# Altium integrated library ON Semi Signal Management Audio Amplifiers.IntLib: 87 symbols (part 2 of 4)
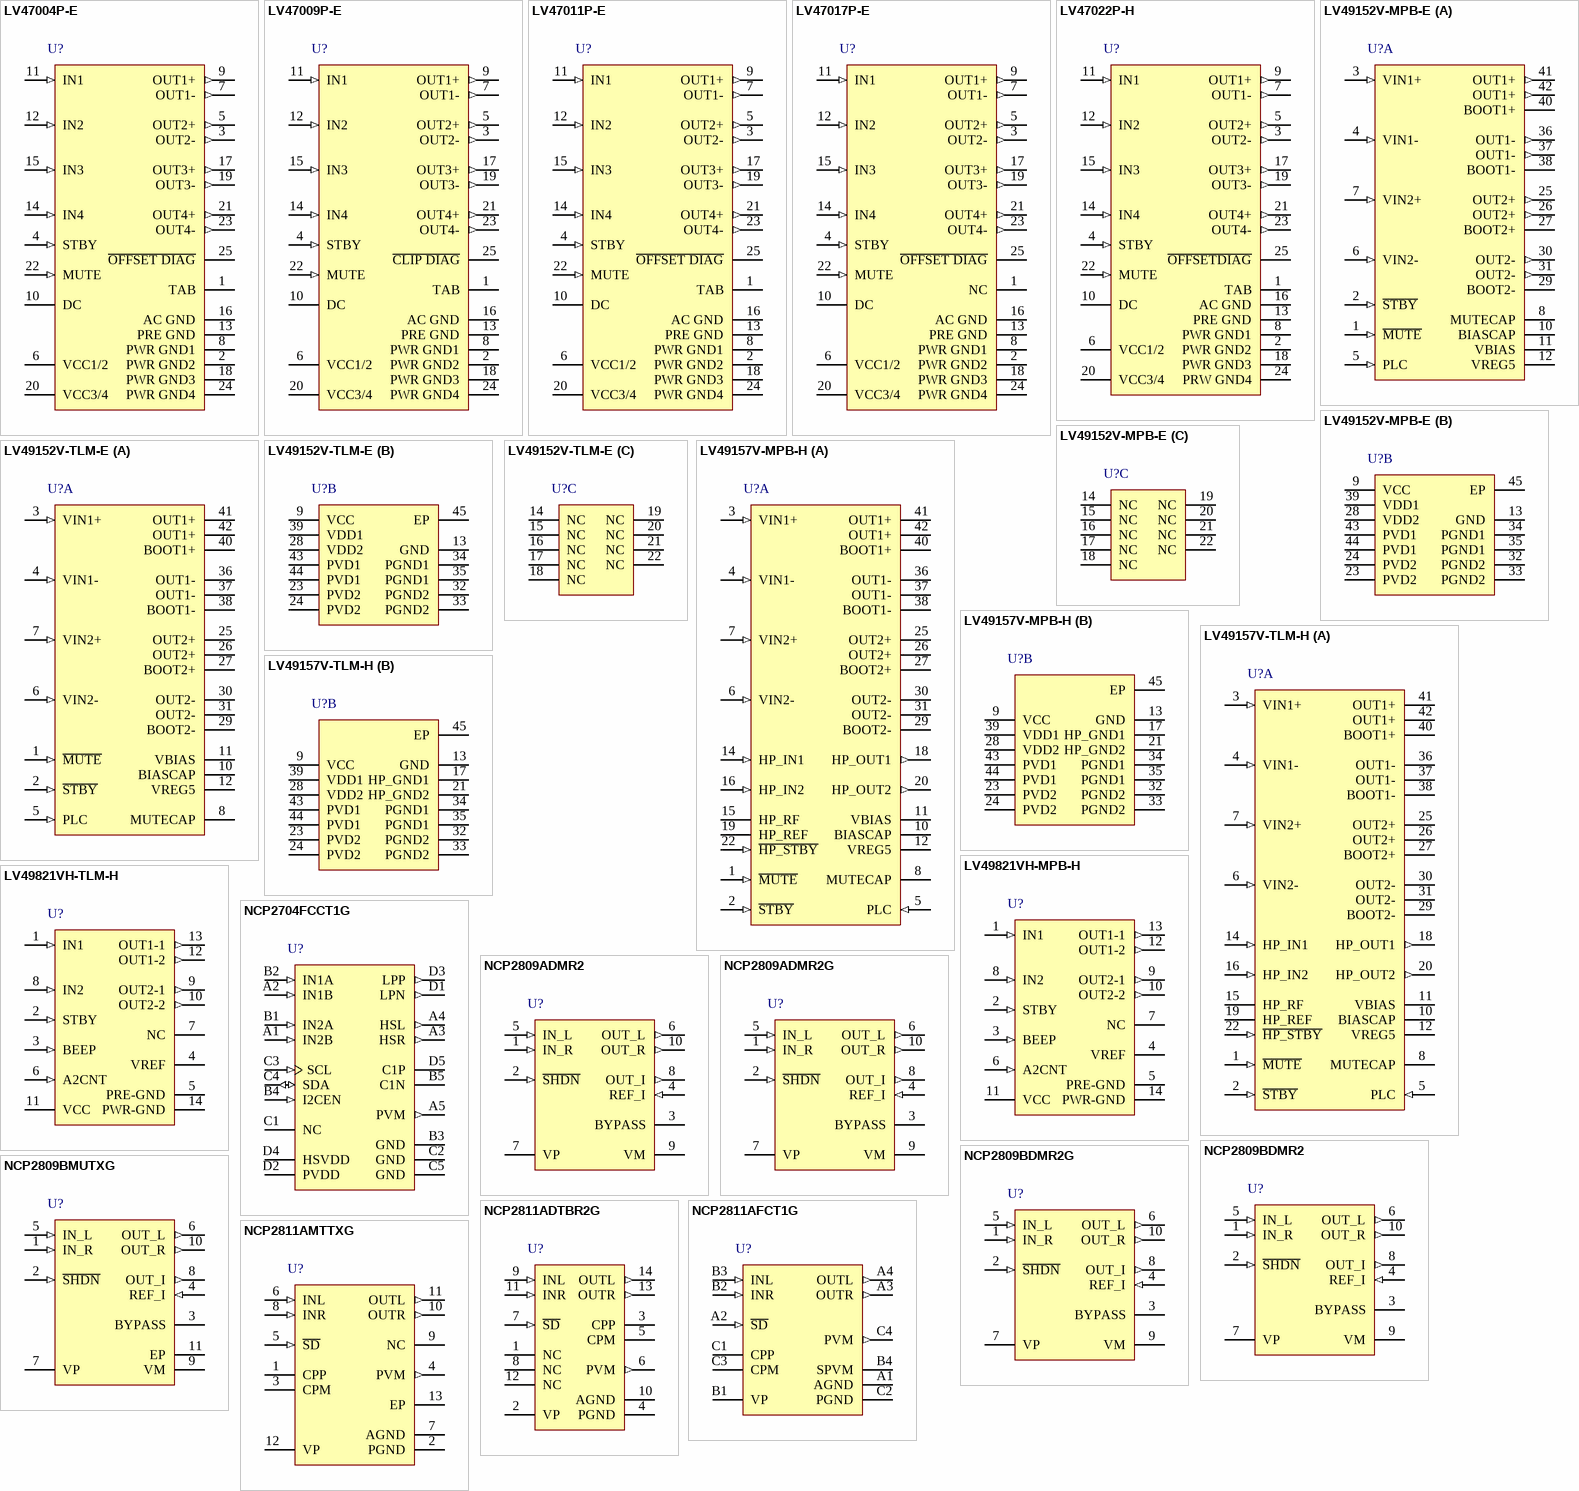
[diagram p4: symbols LV47004P-E to NCP2811AMTTXG]

## LV49157V-TLM-H
designator U?
Class-D Audio Power Amplifier with Built-In Headphone Amplifier BTL 15 W x 2 ch, -25 to 75 degC, 44-Pin SSOP44J, Pb-Free, Tape and Reel; Manufacturer: On Semiconductor; PartNumber: LV49157V-TLM-H; Efficiency Typ (%): 93; DatasheetVersion: Rev. 0; PackageReference: SSOP44J-44; PackageDescription: 44-Pin Small Outline Package, Body 15 x 5.6 mm, Pitch 0.65 mm; Supplier 1: Digi-Key; Supplier Part Number 1: LV49157V-TLM-H-ND; Supplier 2: Mouser; Supplier Part Number 2: 863-LV49157V-TLM-H; Packing: Tape and Reel; RoHS: TRUE; Mounting Technology: Surface Mount; ComponentLink1Description: Manufacturer URL; ComponentLink1URL: http://www.onsemi.com/; ComponentLink2Description: Datasheet; ComponentLink2URL: http://www.onsemi.com/pub_link/Collateral/LV49157V-D.PDF; ComponentLink3Description: Package Specification; ComponentLink3URL: http://www.onsemi.com/pub_link/Collateral/ENA1963-D.PDF
footprint ONSC-SSOP44J-44_N (SOP, 44-Leads, Body 15x5.6mm, Pitch 0.65mm, Thermal Pad 7.8x3.6mm, IPC Medium Density)
footprint ONSC-SSOP44J-44_L (SOP, 44-Leads, Body 15x5.6mm, Pitch 0.65mm, Thermal Pad 7.8x3.6mm, IPC High Density)
footprint ONSC-SSOP44J-44_M (SOP, 44-Leads, Body 15x5.6mm, Pitch 0.65mm, Thermal Pad 7.8x3.6mm, IPC Low Density)
part A pins: 1 ~{MUTE} (in) "Mute control pin", 2 ~{STBY} (in) "Standby control pin", 3 VIN1+ (in) "Input pin, CH1 plus", 4 VIN1- (in) "Input pin, CH1 minus", 5 PLC (in) "Power level control pin", 6 VIN2- (in) "Input pin, CH2 minus", 7 VIN2+ (in) "Input pin, CH2 plus", 8 MUTECAP "Muteing system capacitor connection", 10 BIASCAP "Internal regulator decoupling capacitor connection", 11 VBIAS "Internal regulator decoupling capacitor connection", 12 VREG5 "Internal regulator decoupling capacitor connection", 14 HP_IN1 (in) "Headphone CH1 input", 15 HP_RF "Internal regulator decoupling capacitor connection", 16 HP_IN2 (in) "Headphone CH2 input", 18 HP_OUT1 (out) "Headphone CH1 output", 19 HP_REF "Internal regulator decoupling capacitor connection", 20 HP_OUT2 (out) "Headphone CH2 output", 22 ~{HP_STBY} (in) "Headphone Amplifier standby control pin", 25 OUT2+ "Output pin, CH2 plus", 26 OUT2+ "Output pin, CH2 plus", 27 BOOT2+ "Boot strap pin, CH2 plus", 29 BOOT2- "Boot strap pin, CH2 minus", 30 OUT2- "Output pin, CH2 minus", 31 OUT2- "Output pin, CH2 minus", 36 OUT1- "Output pin, CH1 minus", 37 OUT1- "Output pin, CH1 minus", 38 BOOT1- "Boot strap pin, CH1 minus", 40 BOOT1+ "Boot strap pin, CH1 plus", 41 OUT1+ "Output pin, CH1 plus", 42 OUT1+ "Output pin, CH1 plus"
part B pins: 9 VCC (power) "Internal power supply decoupling capacitor connection", 13 GND (power) "Analog Ground", 17 HP_GND1 (power) "Headphone Ground", 21 HP_GND2 (power) "Headphone CH2 Ground", 23 PVD2 (power) "CH2 power supply", 24 PVD2 (power) "CH2 power supply", 28 VDD2 (power) "CH2 internal regulator decoupling capacitor connection", 32 PGND2 (power) "CH2 power Ground", 33 PGND2 (power) "CH2 power Ground", 34 PGND1 (power) "CH1 power Ground", 35 PGND1 (power) "CH1 power Ground", 39 VDD1 (power) "CH1 internal regulator decoupling capacitor connection", 43 PVD1 (power) "CH1 power supply", 44 PVD1 (power) "CH1 power supply", 45 EP

## LV49821VH-MPB-H
designator U?
For Portable Electronic Device Use 1.4 W x 2 ch BTL Power Amplifier, -30 to 75 degC, 13-Pin HSSOP, Pb-Free, Fan-Fold; Manufacturer: On Semiconductor; PartNumber: LV49821VH-MPB-H; DatasheetVersion: Rev. 1; PackageVersion: Rev. O, 05/2012; PackageReference: HSSOP-13-944AD; PackageDescription: 13-Pin Small Outline Package, Body 5.2 x 4.4 mm, Pitch 0.65 mm; Supplier 1: Digi-Key; Supplier Part Number 1: LV49821VH-MPB-H-ND; Supplier 2: Mouser; Supplier Part Number 2: 863-LV49821VH-MPB-H; Packing: Fan-Fold; RoHS: TRUE; Mounting Technology: Surface Mount; ComponentLink1Description: Manufacturer URL; ComponentLink1URL: http://www.onsemi.com/; ComponentLink2Description: Datasheet; ComponentLink2URL: http://www.onsemi.com/pub_link/Collateral/LV49821VH-D.PDF; ComponentLink3Description: Package Specification; ComponentLink3URL: http://www.onsemi.com/pub_link/Collateral/944AD.PDF
footprint ONSC-HSSOP-13-944AD_N (SOP, 14-Leads, Body 5.3x4.5mm, Pitch 0.65mm, IPC Medium Density)
footprint ONSC-HSSOP-13-944AD_L (SOP, 14-Leads, Body 5.3x4.5mm, Pitch 0.65mm, IPC High Density)
footprint ONSC-HSSOP-13-944AD_M (SOP, 14-Leads, Body 5.3x4.5mm, Pitch 0.65mm, IPC Low Density)
pins: 1 IN1 (in) "Power amplifier input pin (1ch).", 2 STBY (in) "Standby control pin.", 3 BEEP (in) "Beep signal input pin.", 4 VREF "Reference voltage pin.", 5 PRE-GND (power) "Pre-stage block ground pin", 6 A2CNT (in) "2nd amplifier stop control pin.", 7 NC "Unused pin.", 8 IN2 (in) "Power amplifier input pin (2ch).", 9 OUT2-1 (out) "BTL 1st output pin (2ch).", 10 OUT2-2 (out) "BTL 2nd output pin (2ch).", 11 VCC (power) "Power supply pin.", 12 OUT1-2 (out) "BTL 2nd output pin (1ch).", 13 OUT1-1 (out) "BTL 1st output pin (1ch).", 14 PWR-GND (power) "Power system ground pin. Radiotion fin."

## LV49821VH-TLM-H
designator U?
For Portable Electronic Device Use 1.4 W x 2 ch BTL Power Amplifier, -30 to 75 degC, 13-Pin HSSOP, Pb-Free, Tape and Reel; Manufacturer: On Semiconductor; PartNumber: LV49821VH-TLM-H; DatasheetVersion: Rev. 1; PackageVersion: Rev. O, 05/2012; PackageReference: HSSOP-13-944AD; PackageDescription: 13-Pin Small Outline Package, Body 5.2 x 4.4 mm, Pitch 0.65 mm; Supplier 1: Digi-Key; Supplier Part Number 1: LV49821VH-TLM-H-ND; Supplier 2: Mouser; Supplier Part Number 2: 863-LV49821VH-TLM-H; Packing: Tape and Reel; RoHS: TRUE; Mounting Technology: Surface Mount; ComponentLink1Description: Manufacturer URL; ComponentLink1URL: http://www.onsemi.com/; ComponentLink2Description: Datasheet; ComponentLink2URL: http://www.onsemi.com/pub_link/Collateral/LV49821VH-D.PDF; ComponentLink3Description: Package Specification; ComponentLink3URL: http://www.onsemi.com/pub_link/Collateral/944AD.PDF
footprint ONSC-HSSOP-13-944AD_N (SOP, 14-Leads, Body 5.3x4.5mm, Pitch 0.65mm, IPC Medium Density)
footprint ONSC-HSSOP-13-944AD_L (SOP, 14-Leads, Body 5.3x4.5mm, Pitch 0.65mm, IPC High Density)
footprint ONSC-HSSOP-13-944AD_M (SOP, 14-Leads, Body 5.3x4.5mm, Pitch 0.65mm, IPC Low Density)
pins: 1 IN1 (in) "Power amplifier input pin (1ch).", 2 STBY (in) "Standby control pin.", 3 BEEP (in) "Beep signal input pin.", 4 VREF "Reference voltage pin.", 5 PRE-GND (power) "Pre-stage block ground pin", 6 A2CNT (in) "2nd amplifier stop control pin.", 7 NC "Unused pin.", 8 IN2 (in) "Power amplifier input pin (2ch).", 9 OUT2-1 (out) "BTL 1st output pin (2ch).", 10 OUT2-2 (out) "BTL 2nd output pin (2ch).", 11 VCC (power) "Power supply pin.", 12 OUT1-2 (out) "BTL 2nd output pin (1ch).", 13 OUT1-1 (out) "BTL 1st output pin (1ch).", 14 PWR-GND (power) "Power system ground pin. Radiotion fin."

## NCP2704FCCT1G
designator U?
Audio Management Integrated Circuit with 2.8 W Class-D and LongPlay True Ground Headphone Amplifier, -40 to 85 degC, 20-Pin FLIP-CHIP, Pb-Free, Tape and Reel; Manufacturer: On Semiconductor; PartNumber: NCP2704FCCT1G; Efficiency Typ (%): 87; ISD Typ (nA): 100; DatasheetVersion: Rev. 0; PackageVersion: Rev. A, 10/2010; PackageReference: FLIP-CHIP-20-499BH-01; PackageDescription: 20-Ball Flip Chip Ball Grid Array, Body 2.5 x 2 mm, Pitch 0.5 mm; Supplier 1: Digi-Key; Supplier Part Number 1: NCP2704FCCT1G-ND; Supplier 2: Mouser; Supplier Part Number 2: 863-NCP2704FCCT1G; Packing: Tape and Reel; RoHS: TRUE; Mounting Technology: Surface Mount; ComponentLink1Description: Manufacturer URL; ComponentLink1URL: http://www.onsemi.com/; ComponentLink2Description: Datasheet; ComponentLink2URL: http://www.onsemi.com/pub_link/Collateral/NCP2704-D.PDF; ComponentLink3Description: Package Specification; ComponentLink3URL: http://www.onsemi.com/pub_link/Collateral/499BH.PDF
footprint ONSC-FLIP-CHIP-20-499BH-01 (BGA, 20-Balls, Body 2.5x2mm, Pitch 0.5mm)
pins: A1 IN2B (in) "First audio input. It is paired with IN2A. This pin is configured for single ended or differential types of input, pending on the I2C programming.", A2 IN1B (in) "First audio input. It is paired with IN1A. This pin is configured for single ended or differential types of input, pending on the I2C programming.", A3 HSR (out) "Headset amplifier right output.", A4 HSL (out) "Headset amplifier left output.", A5 PVM (out) "Charge pump output. This is the symmetrical voltage of the power supply applied on the HSVBAT. A low ESR ceramic capacitor to ground is required.", B1 IN2A (in) "First audio input. It is paired with IN2B. This pin is configured for single ended or differential types of input, pending on the I2C programming.", B2 IN1A (in) "First audio input. It is paired with IN1B. This pin is configured for single ended or differential types of input, pending on the I2C programming.", B3 GND (power) "Analog ground.", B4 I2CEN (in) "I2C enable pin", B5 C1N "Charge pump flying capacitor negative capacitor.", C1 NC "Not connected pin", C2 GND (power) "Power ground dedicated to the loudspeaker and the receiver.", C3 SCL (in) "Clock input for the I2C bus.", C4 SDA (io) "Data input for the I2C bus.", C5 GND (power) "Power ground dedicated to the charge pump and the headset amplifier.", D1 LPN (out) "Loudspeaker negative output.", D2 PVDD (power) "Power supply. A low ESR ceramic capacitor to ground is required.", D3 LPP (out) "Loudspeaker positive output.", D4 HSVDD (power) "Power supply dedicated to the charge pump and the headset amplifier. A low ESR ceramic capacitor to ground is required.", D5 C1P "Charge pump flying capacitor positive capacitor."

## NCP2809ADMR2
designator U?
NOCAP(TM) 135 mW Stereo Headphone Power Amplifier, -40 to 85 degC, 10-Pin MICRO, Tape and Reel; Manufacturer: On Semiconductor; PartNumber: NCP2809ADMR2; Efficiency Typ (%): 63; ISD Typ (nA): 10; ton Typ (ms): 285; DatasheetVersion: Rev. 11; PackageVersion: Rev. D, 12/2004; PackageReference: MICRO-10-846B-03; PackageDescription: 10-Pin Micro Small Outline Package, Body 3 x 3 mm, Pitch 0.5 mm; Supplier 1: Digi-Key; Supplier Part Number 1: NCP2809ADMR2-ND; Packing: Tape and Reel; RoHS: FALSE; Mounting Technology: Surface Mount; ComponentLink1Description: Manufacturer URL; ComponentLink1URL: http://www.onsemi.com/; ComponentLink2Description: Datasheet; ComponentLink2URL: http://www.onsemi.com/pub_link/Collateral/NCP2809-D.PDF; ComponentLink3Description: Package Specification; ComponentLink3URL: http://www.onsemi.cn/pub_link/Collateral/846B-02.PDF
footprint ONSC-MICRO-10-846B-03_V (SOP, 10-Leads, Body 3.1x3.1mm, Pitch 0.5mm)
pins: 1 IN_R (in) "Negative input of the second amplifier. It receives the audio input signal. Connected to the input capicator Cin (NCP2809A) or the external Rin (NCP2809B).", 2 ~{SHDN} (in) "The device enters in shutdown mode when a a low level is applied on this pin.", 3 BYPASS "Bypass capacitor pin which provides the common mode voltage (VP/2).", 4 REF_I (in) "Virtual ground amplifier feed back. This pin sets the stereo headset ground. In order to improve crosstalk, this pin must be connected as close as possible to the ground connection of the headset (ideally at the ground pin (See Datasheet)", 5 IN_L (in) "Negative input of the first amplifier. It receives the audio input signal. Connected to the input capacitor Cin (NCP2809A) or the external Rin (NCP2809B).", 6 OUT_L (out) "Stereo headset amplifier analog output left. This pin will output the amplified analog signal and, depending on the application, must be coupled with a capacitor or directly connected to the left loudspeaker of the headset. (See Datasheet)", 7 VP (power) "Positive analog supply of the cell. Range: 2.2 V - 5.5 V", 8 OUT_I (out) "Virtual ground for stereo Headset common connection. This pin is directly connected to the common connection of the headset when use of bypassing capacitor is not required. When one uses bypassing capacitors, this pin must (See Datasheet)", 9 VM (power) "Analog Ground", 10 OUT_R (out) "Stereo headset amplifier analog output right. This pin will output the amplified analog signal and, depending on the application, must be coupled with a capacitor or directly connected to the right loudspeaker of the headset.(See Datasheet)"

## NCP2809ADMR2G
designator U?
NOCAP(TM) 135 mW Stereo Headphone Power Amplifier, -40 to 85 degC, 10-Pin MICRO, Pb-Free, Tape and Reel; Manufacturer: On Semiconductor; PartNumber: NCP2809ADMR2G; Efficiency Typ (%): 63; ISD Typ (nA): 10; ton Typ (ms): 285; DatasheetVersion: Rev. 11; PackageVersion: Rev. D, 12/2004; PackageReference: MICRO-10-846B-03; PackageDescription: 10-Pin Micro Small Outline Package, Body 3 x 3 mm, Pitch 0.5 mm; Supplier 1: Digi-Key; Supplier Part Number 1: NCP2809ADMR2GOSTR-ND; Supplier 2: Digi-Key; Supplier Part Number 2: NCP2809ADMR2GOSCT-ND; Supplier 3: Mouser; Supplier Part Number 3: 863-NCP2809ADMR2G; Packing: Tape and Reel; RoHS: TRUE; Mounting Technology: Surface Mount; ComponentLink1Description: Manufacturer URL; ComponentLink1URL: http://www.onsemi.com/; ComponentLink2Description: Datasheet; ComponentLink2URL: http://www.onsemi.com/pub_link/Collateral/NCP2809-D.PDF; ComponentLink3Description: Package Specification; ComponentLink3URL: http://www.onsemi.cn/pub_link/Collateral/846B-02.PDF
footprint ONSC-MICRO-10-846B-03_V (SOP, 10-Leads, Body 3.1x3.1mm, Pitch 0.5mm)
pins: 1 IN_R (in) "Negative input of the second amplifier. It receives the audio input signal. Connected to the input capicator Cin (NCP2809A) or the external Rin (NCP2809B).", 2 ~{SHDN} (in) "The device enters in shutdown mode when a a low level is applied on this pin.", 3 BYPASS "Bypass capacitor pin which provides the common mode voltage (VP/2).", 4 REF_I (in) "Virtual ground amplifier feed back. This pin sets the stereo headset ground. In order to improve crosstalk, this pin must be connected as close as possible to the ground connection of the headset (ideally at the ground pin (See Datasheet)", 5 IN_L (in) "Negative input of the first amplifier. It receives the audio input signal. Connected to the input capacitor Cin (NCP2809A) or the external Rin (NCP2809B).", 6 OUT_L (out) "Stereo headset amplifier analog output left. This pin will output the amplified analog signal and, depending on the application, must be coupled with a capacitor or directly connected to the left loudspeaker of the headset. (See Datasheet)", 7 VP (power) "Positive analog supply of the cell. Range: 2.2 V - 5.5 V", 8 OUT_I (out) "Virtual ground for stereo Headset common connection. This pin is directly connected to the common connection of the headset when use of bypassing capacitor is not required. When one uses bypassing capacitors, this pin must (See Datasheet)", 9 VM (power) "Analog Ground", 10 OUT_R (out) "Stereo headset amplifier analog output right. This pin will output the amplified analog signal and, depending on the application, must be coupled with a capacitor or directly connected to the right loudspeaker of the headset.(See Datasheet)"

## NCP2809BDMR2
designator U?
NOCAP(TM) 135 mW Stereo Headphone Power Amplifier, -40 to 85 degC, 10-Pin MICRO, Tape and Reel; Manufacturer: On Semiconductor; PartNumber: NCP2809BDMR2; Efficiency Typ (%): 63; ISD Typ (nA): 10; ton Typ (ms): 285; DatasheetVersion: Rev. 11; PackageVersion: Rev. D, 12/2004; PackageReference: MICRO-10-846B-03; PackageDescription: 10-Pin Micro Small Outline Package, Body 3 x 3 mm, Pitch 0.5 mm; Supplier 1: Digi-Key; Supplier Part Number 1: NCP2809BDMR2-ND; Packing: Tape and Reel; RoHS: FALSE; Mounting Technology: Surface Mount; ComponentLink1Description: Manufacturer URL; ComponentLink1URL: http://www.onsemi.com/; ComponentLink2Description: Datasheet; ComponentLink2URL: http://www.onsemi.com/pub_link/Collateral/NCP2809-D.PDF; ComponentLink3Description: Package Specification; ComponentLink3URL: http://www.onsemi.cn/pub_link/Collateral/846B-02.PDF
footprint ONSC-MICRO-10-846B-03_V (SOP, 10-Leads, Body 3.1x3.1mm, Pitch 0.5mm)
pins: 1 IN_R (in) "Negative input of the second amplifier. It receives the audio input signal. Connected to the input capicator Cin (NCP2809A) or the external Rin (NCP2809B).", 2 ~{SHDN} (in) "The device enters in shutdown mode when a a low level is applied on this pin.", 3 BYPASS "Bypass capacitor pin which provides the common mode voltage (VP/2).", 4 REF_I (in) "Virtual ground amplifier feed back. This pin sets the stereo headset ground. In order to improve crosstalk, this pin must be connected as close as possible to the ground connection of the headset (ideally at the ground pin (See Datasheet)", 5 IN_L (in) "Negative input of the first amplifier. It receives the audio input signal. Connected to the input capacitor Cin (NCP2809A) or the external Rin (NCP2809B).", 6 OUT_L (out) "Stereo headset amplifier analog output left. This pin will output the amplified analog signal and, depending on the application, must be coupled with a capacitor or directly connected to the left loudspeaker of the headset. (See Datasheet)", 7 VP (power) "Positive analog supply of the cell. Range: 2.2 V - 5.5 V", 8 OUT_I (out) "Virtual ground for stereo Headset common connection. This pin is directly connected to the common connection of the headset when use of bypassing capacitor is not required. When one uses bypassing capacitors, this pin must (See Datasheet)", 9 VM (power) "Analog Ground", 10 OUT_R (out) "Stereo headset amplifier analog output right. This pin will output the amplified analog signal and, depending on the application, must be coupled with a capacitor or directly connected to the right loudspeaker of the headset.(See Datasheet)"

## NCP2809BDMR2G
designator U?
NOCAP(TM) 135 mW Stereo Headphone Power Amplifier, -40 to 85 degC, 10-Pin MICRO, Pb-Free, Tape and Reel; Manufacturer: On Semiconductor; PartNumber: NCP2809BDMR2G; Efficiency Typ (%): 63; ISD Typ (nA): 10; ton Typ (ms): 285; DatasheetVersion: Rev. 11; PackageVersion: Rev. D, 12/2004; PackageReference: MICRO-10-846B-03; PackageDescription: 10-Pin Micro Small Outline Package, Body 3 x 3 mm, Pitch 0.5 mm; Supplier 1: Digi-Key; Supplier Part Number 1: NCP2809BDMR2GOSTR-ND; Supplier 2: Digi-Key; Supplier Part Number 2: NCP2809BDMR2GOSCT-ND; Supplier 3: Mouser; Supplier Part Number 3: 863-NCP2809BDMR2G; Packing: Tape and Reel; RoHS: TRUE; Mounting Technology: Surface Mount; ComponentLink1Description: Manufacturer URL; ComponentLink1URL: http://www.onsemi.com/; ComponentLink2Description: Datasheet; ComponentLink2URL: http://www.onsemi.com/pub_link/Collateral/NCP2809-D.PDF; ComponentLink3Description: Package Specification; ComponentLink3URL: http://www.onsemi.cn/pub_link/Collateral/846B-02.PDF
footprint ONSC-MICRO-10-846B-03_V (SOP, 10-Leads, Body 3.1x3.1mm, Pitch 0.5mm)
pins: 1 IN_R (in) "Negative input of the second amplifier. It receives the audio input signal. Connected to the input capicator Cin (NCP2809A) or the external Rin (NCP2809B).", 2 ~{SHDN} (in) "The device enters in shutdown mode when a a low level is applied on this pin.", 3 BYPASS "Bypass capacitor pin which provides the common mode voltage (VP/2).", 4 REF_I (in) "Virtual ground amplifier feed back. This pin sets the stereo headset ground. In order to improve crosstalk, this pin must be connected as close as possible to the ground connection of the headset (ideally at the ground pin (See Datasheet)", 5 IN_L (in) "Negative input of the first amplifier. It receives the audio input signal. Connected to the input capacitor Cin (NCP2809A) or the external Rin (NCP2809B).", 6 OUT_L (out) "Stereo headset amplifier analog output left. This pin will output the amplified analog signal and, depending on the application, must be coupled with a capacitor or directly connected to the left loudspeaker of the headset. (See Datasheet)", 7 VP (power) "Positive analog supply of the cell. Range: 2.2 V - 5.5 V", 8 OUT_I (out) "Virtual ground for stereo Headset common connection. This pin is directly connected to the common connection of the headset when use of bypassing capacitor is not required. When one uses bypassing capacitors, this pin must (See Datasheet)", 9 VM (power) "Analog Ground", 10 OUT_R (out) "Stereo headset amplifier analog output right. This pin will output the amplified analog signal and, depending on the application, must be coupled with a capacitor or directly connected to the right loudspeaker of the headset.(See Datasheet)"

## NCP2809BMUTXG
designator U?
NOCAP(TM) 135 mW Stereo Headphone Power Amplifier, -40 to 85 degC, 10-Pin UDFN, Pb-Free, Tape and Reel; Manufacturer: On Semiconductor; PartNumber: NCP2809BMUTXG; Efficiency Typ (%): 63; ISD Typ (nA): 10; ton Typ (ms): 285; DatasheetVersion: Rev. 11; PackageVersion: Rev. A, 06/2007; PackageReference: UDFN10-506AT-01; PackageDescription: 10-Pin Small Outline No-Lead, Body 3 x 3 mm, Pitch 0.5 mm; Supplier 1: Digi-Key; Supplier Part Number 1: NCP2809BMUTXG-ND; Supplier 2: Mouser; Supplier Part Number 2: 863-NCP2809BMUTXG; Packing: Tape and Reel; RoHS: TRUE; Mounting Technology: Surface Mount; ComponentLink1Description: Manufacturer URL; ComponentLink1URL: http://www.onsemi.com/; ComponentLink2Description: Datasheet; ComponentLink2URL: http://www.onsemi.com/pub_link/Collateral/NCP2809-D.PDF; ComponentLink3Description: Package Specification; ComponentLink3URL: http://www.onsemi.com/pub_link/Collateral/506AT.PDF
footprint ONSC-UDFN10-506AT-01_V (SON, 10-Leads, Body 3x3mm, Pitch 0.5mm, Thermal Pad 2.602x1.851mm)
pins: 1 IN_R (in) "Negative input of the second amplifier. It receives the audio input signal. Connected to the input capicator Cin (NCP2809A) or the external Rin (NCP2809B).", 2 ~{SHDN} (in) "The device enters in shutdown mode when a a low level is applied on this pin.", 3 BYPASS "Bypass capacitor pin which provides the common mode voltage (VP/2).", 4 REF_I (in) "Virtual ground amplifier feed back. This pin sets the stereo headset ground. In order to improve crosstalk, this pin must be connected as close as possible to the ground connection of the headset (ideally at the ground pin (See Datasheet)", 5 IN_L (in) "Negative input of the first amplifier. It receives the audio input signal. Connected to the input capacitor Cin (NCP2809A) or the external Rin (NCP2809B).", 6 OUT_L (out) "Stereo headset amplifier analog output left. This pin will output the amplified analog signal and, depending on the application, must be coupled with a capacitor or directly connected to the left loudspeaker of the headset. (See Datasheet)", 7 VP (power) "Positive analog supply of the cell. Range: 2.2 V - 5.5 V", 8 OUT_I (out) "Virtual ground for stereo Headset common connection. This pin is directly connected to the common connection of the headset when use of bypassing capacitor is not required. When one uses bypassing capacitors, this pin must (See Datasheet)", 9 VM (power) "Analog Ground", 10 OUT_R (out) "Stereo headset amplifier analog output right. This pin will output the amplified analog signal and, depending on the application, must be coupled with a capacitor or directly connected to the right loudspeaker of the headset.(See Datasheet)", 11 EP

## NCP2811ADTBR2G
designator U?
NOCAP(TM) Advanced Stereo Headphone Amplifier, -40 to 85 degC, 14-Pin TSSOP, Pb-Free, Tape and Reel; Manufacturer: On Semiconductor; PartNumber: NCP2811ADTBR2G; ton Typ (ms): 1; DatasheetVersion: Rev. 3; PackageVersion: Rev. B, 10/2006; PackageReference: TSSOP-14-948G-01; PackageDescription: 14-Pin Small Outline Package, Body 5 x 4.4 mm, Pitch 0.65 mm; Supplier 1: Digi-Key; Supplier Part Number 1: NCP2811ADTBR2GOSTR-ND; Supplier 2: Digi-Key; Supplier Part Number 2: NCP2811ADTBR2GOSCT-ND; Supplier 3: Digi-Key; Supplier Part Number 3: NCP2811ADTBR2GOSDKR-ND; Supplier 4: Mouser; Supplier Part Number 4: 863-NCP2811ADTBR2G; Packing: Tape and Reel; RoHS: TRUE; Mounting Technology: Surface Mount; ComponentLink1Description: Manufacturer URL; ComponentLink1URL: http://www.onsemi.com/; ComponentLink2Description: Datasheet; ComponentLink2URL: http://www.onsemi.com/pub_link/Collateral/NCP2811-D.PDF; ComponentLink3Description: Package Specification; ComponentLink3URL: http://www.onsemi.com/pub_link/Collateral/948G-01.PDF
footprint ONSC-TSSOP-14-948G-01_V (SOP, 14-Leads, Body 5.1x4.5mm, Pitch 0.65mm)
pins: 1 NC, 2 VP (power) "Positive supply voltage. It can be connected for example to a Lithium/Ion battery", 3 CPP "Charge pump flying capacitor positive terminal. A 1 uF ceramic filtering capacitor to CPM is needed", 4 PGND (power) "Power ground, connect to ground reference", 5 CPM "Charge pump flying capacitor negative terminal. A 1 uF ceramic filtering capacitor to CPP is needed", 6 PVM (out) "Charge pump output. A 1 uF ceramic filtering capacitor to ground is needed", 7 ~{SD} (in) "Enable activation", 8 NC, 9 INL (in) "Left input of the first audio source", 10 AGND (power) "Analog ground. Connect to ground reference", 11 INR (in) "Right input of the first audio source", 12 NC, 13 OUTR (out) "Right audio channel output signal", 14 OUTL (out) "Left audio channel output signal"

## NCP2811AFCT1G
designator U?
NOCAP(TM) Advanced Stereo Headphone Amplifier, -40 to 85 degC, 12-Pin FLIP-CHIP, Pb-Free, Tape and Reel; Manufacturer: On Semiconductor; PartNumber: NCP2811AFCT1G; ton Typ (ms): 1; DatasheetVersion: Rev. 3; PackageVersion: Rev. O, 05/2008; PackageReference: FLIP-CHIP-12-499AZ-01; PackageDescription: 12-Ball Flip Chip Ball Grid Array, Body 2 x 1.5 mm, Pitch 0.5 mm; Supplier 1: Digi-Key; Supplier Part Number 1: NCP2811AFCT1G-ND; Supplier 2: Mouser; Supplier Part Number 2: 863-NCP2811AFCT1G; Packing: Tape and Reel; RoHS: TRUE; Mounting Technology: Surface Mount; ComponentLink1Description: Manufacturer URL; ComponentLink1URL: http://www.onsemi.com/; ComponentLink2Description: Datasheet; ComponentLink2URL: http://www.onsemi.com/pub_link/Collateral/NCP2811-D.PDF; ComponentLink3Description: Package Specification; ComponentLink3URL: http://www.onsemi.cn/pub_link/Collateral/499AZ.PDF
footprint ONSC-FLIP-CHIP-12-499AZ-01 (BGA, 12-Balls, Body 2x1.5mm, Pitch 0.5mm)
pins: A1 AGND (power) "Analog ground. Connect to ground reference", A2 ~{SD} (in) "Enable activation", A3 OUTR (out) "Right audio channel output signal", A4 OUTL (out) "Left audio channel output signal", B1 VP (power) "Positive supply voltage. It can be connected for example to a Lithium/Ion battery", B2 INR (in) "Right input of the first audio source", B3 INL (in) "Left input of the first audio source", B4 SPVM (power) "Amplifier negative power supply voltage. Connect to PVM", C1 CPP "Charge pump flying capacitor positive terminal. A 1 uF ceramic filtering capacitor to CPM is needed", C2 PGND (power) "Power ground, connect to ground reference", C3 CPM "Charge pump flying capacitor negative terminal. A 1 uF ceramic filtering capacitor to CPP is needed", C4 PVM (out) "Charge pump output. A 1 uF ceramic filtering capacitor to ground is needed"

## NCP2811AMTTXG
designator U?
NOCAP(TM) Advanced Stereo Headphone Amplifier, -40 to 85 degC, 12-Pin WQFN, Pb-Free, Tape and Reel; Manufacturer: On Semiconductor; PartNumber: NCP2811AMTTXG; ton Typ (ms): 1; DatasheetVersion: Rev. 3; PackageVersion: Rev. O, 01/2009; PackageReference: WQFN-12-510AH-01; PackageDescription: 12-Pin Quad Flat No-Lead, Body 3 x 3 mm, Pitch 0.5 mm; Supplier 1: Digi-Key; Supplier Part Number 1: NCP2811AMTTXGOSCT-ND; Supplier 2: Digi-Key; Supplier Part Number 2: NCP2811AMTTXGOSDKR-ND; Supplier 3: Mouser; Supplier Part Number 3: 863-NCP2811AMTTXG; Packing: Tape and Reel; RoHS: TRUE; Mounting Technology: Surface Mount; ComponentLink1Description: Manufacturer URL; ComponentLink1URL: http://www.onsemi.com/; ComponentLink2Description: Datasheet; ComponentLink2URL: http://www.onsemi.com/pub_link/Collateral/NCP2811-D.PDF; ComponentLink3Description: Package Specification; ComponentLink3URL: http://www.onsemi.com/pub_link/Collateral/510AH.PDF
footprint ONSC-WQFN-12-510AH-01_V (QFN, 12-Leads, Body 3x3mm, Pitch 0.5mm, Thermal Pad 1.5x1.5mm)
pins: 1 CPP "Charge pump flying capacitor positive terminal. A 1 uF ceramic filtering capacitor to CPM is needed", 2 PGND (power) "Power ground, connect to ground reference", 3 CPM "Charge pump flying capacitor negative terminal. A 1 uF ceramic filtering capacitor to CPP is needed", 4 PVM (out) "Charge pump output. A 1 uF ceramic filtering capacitor to ground is needed", 5 ~{SD} (in) "Enable activation", 6 INL (in) "Left input of the first audio source", 7 AGND (power) "Analog ground. Connect to ground reference", 8 INR (in) "Right input of the first audio source", 9 NC, 10 OUTR (out) "Right audio channel output signal", 11 OUTL (out) "Left audio channel output signal", 12 VP (power) "Positive supply voltage. It can be connected for example to a Lithium/Ion battery", 13 EP

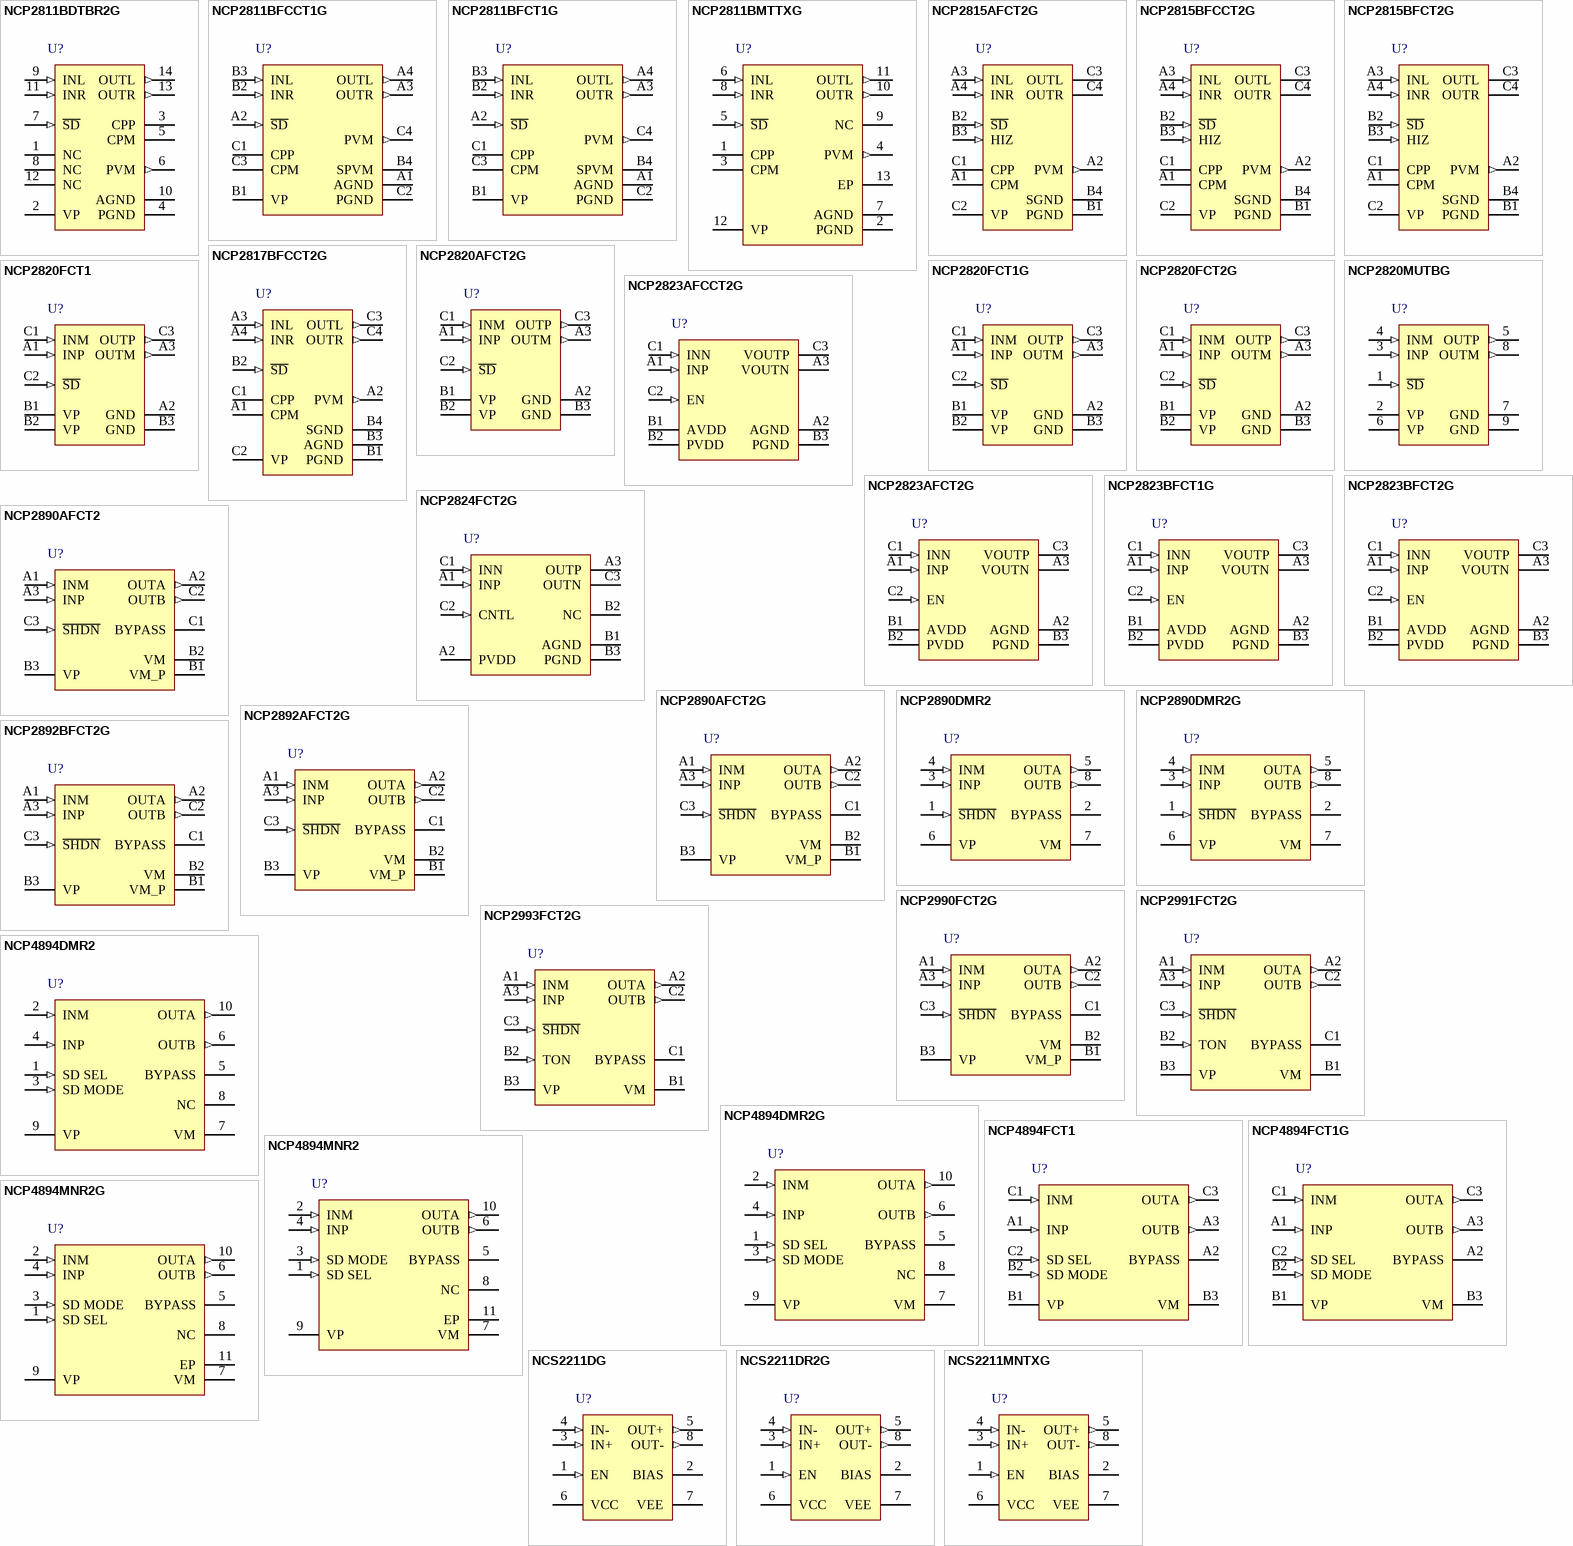
[diagram p2: symbols NCP2811BDTBR2G to NCS2211MNTXG]

## NCP2811BDTBR2G
designator U?
NOCAP(TM) Advanced Stereo Headphone Amplifier, -40 to 85 degC, 14-Pin TSSOP, Pb-Free, Tape and Reel; Manufacturer: On Semiconductor; PartNumber: NCP2811BDTBR2G; ton Typ (ms): 1; DatasheetVersion: Rev. 3; PackageVersion: Rev. B, 10/2006; PackageReference: TSSOP-14-948G-01; PackageDescription: 14-Pin Small Outline Package, Body 5 x 4.4 mm, Pitch 0.65 mm; Supplier 1: Digi-Key; Supplier Part Number 1: NCP2811BDTBR2GOSTR-ND; Supplier 2: Digi-Key; Supplier Part Number 2: NCP2811BDTBR2GOSCT-ND; Supplier 3: Digi-Key; Supplier Part Number 3: NCP2811BDTBR2GOSDKR-ND; Supplier 4: Mouser; Supplier Part Number 4: 863-NCP2811BDTBR2G; Packing: Tape and Reel; RoHS: TRUE; Mounting Technology: Surface Mount; ComponentLink1Description: Manufacturer URL; ComponentLink1URL: http://www.onsemi.com/; ComponentLink2Description: Datasheet; ComponentLink2URL: http://www.onsemi.com/pub_link/Collateral/NCP2811-D.PDF; ComponentLink3Description: Package Specification; ComponentLink3URL: http://www.onsemi.com/pub_link/Collateral/948G-01.PDF
footprint ONSC-TSSOP-14-948G-01_V (SOP, 14-Leads, Body 5.1x4.5mm, Pitch 0.65mm)
pins: 1 NC, 2 VP (power) "Positive supply voltage. It can be connected for example to a Lithium/Ion battery", 3 CPP "Charge pump flying capacitor positive terminal. A 1 uF ceramic filtering capacitor to CPM is needed", 4 PGND (power) "Power ground, connect to ground reference", 5 CPM "Charge pump flying capacitor negative terminal. A 1 uF ceramic filtering capacitor to CPP is needed", 6 PVM (out) "Charge pump output. A 1 uF ceramic filtering capacitor to ground is needed", 7 ~{SD} (in) "Enable activation", 8 NC, 9 INL (in) "Left input of the first audio source", 10 AGND (power) "Analog ground. Connect to ground reference", 11 INR (in) "Right input of the first audio source", 12 NC, 13 OUTR (out) "Right audio channel output signal", 14 OUTL (out) "Left audio channel output signal"

## NCP2811BFCCT1G
designator U?
NOCAP(TM) Advanced Stereo Headphone Amplifier, -40 to 85 degC, 12-Pin FLIP-CHIP, Pb-Free, Tape and Reel; Manufacturer: On Semiconductor; PartNumber: NCP2811BFCCT1G; ton Typ (ms): 1; DatasheetVersion: Rev. 3; PackageVersion: Rev. O, 05/2008; PackageReference: FLIP-CHIP-12-499AZ-01; PackageDescription: 12-Ball Flip Chip Ball Grid Array, Body 2 x 1.5 mm, Pitch 0.5 mm; Supplier 1: Digi-Key; Supplier Part Number 1: NCP2811BFCCT1GOSTR-ND; Supplier 2: Digi-Key; Supplier Part Number 2: NCP2811BFCCT1GOSCT-ND; Supplier 3: Digi-Key; Supplier Part Number 3: NCP2811BFCCT1GOSDKR-ND; Supplier 4: Mouser; Supplier Part Number 4: 863-NCP2811BFCCT1G; Packing: Tape and Reel; RoHS: TRUE; Mounting Technology: Surface Mount; ComponentLink1Description: Manufacturer URL; ComponentLink1URL: http://www.onsemi.com/; ComponentLink2Description: Datasheet; ComponentLink2URL: http://www.onsemi.com/pub_link/Collateral/NCP2811-D.PDF; ComponentLink3Description: Package Specification; ComponentLink3URL: http://www.onsemi.cn/pub_link/Collateral/499AZ.PDF
footprint ONSC-FLIP-CHIP-12-499AZ-01 (BGA, 12-Balls, Body 2x1.5mm, Pitch 0.5mm)
pins: A1 AGND (power) "Analog ground. Connect to ground reference", A2 ~{SD} (in) "Enable activation", A3 OUTR (out) "Right audio channel output signal", A4 OUTL (out) "Left audio channel output signal", B1 VP (power) "Positive supply voltage. It can be connected for example to a Lithium/Ion battery", B2 INR (in) "Right input of the first audio source", B3 INL (in) "Left input of the first audio source", B4 SPVM (power) "Amplifier negative power supply voltage. Connect to PVM", C1 CPP "Charge pump flying capacitor positive terminal. A 1 uF ceramic filtering capacitor to CPM is needed", C2 PGND (power) "Power ground, connect to ground reference", C3 CPM "Charge pump flying capacitor negative terminal. A 1 uF ceramic filtering capacitor to CPP is needed", C4 PVM (out) "Charge pump output. A 1 uF ceramic filtering capacitor to ground is needed"

## NCP2811BFCT1G
designator U?
NOCAP(TM) Advanced Stereo Headphone Amplifier, -40 to 85 degC, 12-Pin FLIP-CHIP, Pb-Free, Tape and Reel; Manufacturer: On Semiconductor; PartNumber: NCP2811BFCT1G; ton Typ (ms): 1; DatasheetVersion: Rev. 3; PackageVersion: Rev. O, 05/2008; PackageReference: FLIP-CHIP-12-499AZ-01; PackageDescription: 12-Ball Flip Chip Ball Grid Array, Body 2 x 1.5 mm, Pitch 0.5 mm; Supplier 1: Mouser; Supplier Part Number 1: 863-NCP2811BFCT1G; Packing: Tape and Reel; RoHS: TRUE; Mounting Technology: Surface Mount; ComponentLink1Description: Manufacturer URL; ComponentLink1URL: http://www.onsemi.com/; ComponentLink2Description: Datasheet; ComponentLink2URL: http://www.onsemi.com/pub_link/Collateral/NCP2811-D.PDF; ComponentLink3Description: Package Specification; ComponentLink3URL: http://www.onsemi.cn/pub_link/Collateral/499AZ.PDF
footprint ONSC-FLIP-CHIP-12-499AZ-01 (BGA, 12-Balls, Body 2x1.5mm, Pitch 0.5mm)
pins: A1 AGND (power) "Analog ground. Connect to ground reference", A2 ~{SD} (in) "Enable activation", A3 OUTR (out) "Right audio channel output signal", A4 OUTL (out) "Left audio channel output signal", B1 VP (power) "Positive supply voltage. It can be connected for example to a Lithium/Ion battery", B2 INR (in) "Right input of the first audio source", B3 INL (in) "Left input of the first audio source", B4 SPVM (power) "Amplifier negative power supply voltage. Connect to PVM", C1 CPP "Charge pump flying capacitor positive terminal. A 1 uF ceramic filtering capacitor to CPM is needed", C2 PGND (power) "Power ground, connect to ground reference", C3 CPM "Charge pump flying capacitor negative terminal. A 1 uF ceramic filtering capacitor to CPP is needed", C4 PVM (out) "Charge pump output. A 1 uF ceramic filtering capacitor to ground is needed"

## NCP2811BMTTXG
designator U?
NOCAP(TM) Advanced Stereo Headphone Amplifier, -40 to 85 degC, 12-Pin WQFN, Pb-Free, Tape and Reel; Manufacturer: On Semiconductor; PartNumber: NCP2811BMTTXG; ton Typ (ms): 1; DatasheetVersion: Rev. 3; PackageVersion: Rev. O, 01/2009; PackageReference: WQFN-12-510AH-01; PackageDescription: 12-Pin Quad Flat No-Lead, Body 3 x 3 mm, Pitch 0.5 mm; Supplier 1: Digi-Key; Supplier Part Number 1: NCP2811BMTTXGOSCT-ND; Supplier 2: Digi-Key; Supplier Part Number 2: NCP2811BMTTXGOSDKR-ND; Supplier 3: Mouser; Supplier Part Number 3: 863-NCP2811BMTTXG; Packing: Tape and Reel; RoHS: TRUE; Mounting Technology: Surface Mount; ComponentLink1Description: Manufacturer URL; ComponentLink1URL: http://www.onsemi.com/; ComponentLink2Description: Datasheet; ComponentLink2URL: http://www.onsemi.com/pub_link/Collateral/NCP2811-D.PDF; ComponentLink3Description: Package Specification; ComponentLink3URL: http://www.onsemi.com/pub_link/Collateral/510AH.PDF
footprint ONSC-WQFN-12-510AH-01_V (QFN, 12-Leads, Body 3x3mm, Pitch 0.5mm, Thermal Pad 1.5x1.5mm)
pins: 1 CPP "Charge pump flying capacitor positive terminal. A 1 uF ceramic filtering capacitor to CPM is needed", 2 PGND (power) "Power ground, connect to ground reference", 3 CPM "Charge pump flying capacitor negative terminal. A 1 uF ceramic filtering capacitor to CPP is needed", 4 PVM (out) "Charge pump output. A 1 uF ceramic filtering capacitor to ground is needed", 5 ~{SD} (in) "Enable activation", 6 INL (in) "Left input of the first audio source", 7 AGND (power) "Analog ground. Connect to ground reference", 8 INR (in) "Right input of the first audio source", 9 NC, 10 OUTR (out) "Right audio channel output signal", 11 OUTL (out) "Left audio channel output signal", 12 VP (power) "Positive supply voltage. It can be connected for example to a Lithium/Ion battery", 13 EP

## NCP2815AFCT2G
designator U?
NOCAP(TM) LongPlay Headphone Amplifier, -40 to 85 degC, 12-Pin FLIP-CHIP, Pb-Free, Tape and Reel; Manufacturer: On Semiconductor; PartNumber: NCP2815AFCT2G; ton Typ (ms): 1; DatasheetVersion: Rev. 1; PackageVersion: Rev. B, 08/2011; PackageReference: FLIP-CHIP-12-499BJ; PackageDescription: 12-Ball Flip Chip Ball Grid Array, Body 1.62 x 1.22 mm, Pitch 0.4 mm; Packing: Tape and Reel; RoHS: TRUE; Mounting Technology: Surface Mount; ComponentLink1Description: Manufacturer URL; ComponentLink1URL: http://www.onsemi.com/; ComponentLink2Description: Datasheet; ComponentLink2URL: http://www.onsemi.com/pub_link/Collateral/NCP2815-D.PDF; ComponentLink3Description: Package Specification; ComponentLink3URL: http://www.onsemi.com/pub_link/Collateral/499BJ.PDF
footprint ONSC-FLIP-CHIP-12-499BJ (BGA, 12-Balls, Body 1.62x1.22mm, Pitch 0.4mm)
pins: A1 CPM "Charge pump flying capacitor negative terminal. A 1 uF ceramic filtering capacitor to CPP is required", A2 PVM (out) "Charge pump output. A 1 uF ceramic filtering capacitor to ground is required", A3 INL (in) "Left input of the audio source", A4 INR (in) "Right input of the audio source", B1 PGND (power) "Power ground", B2 ~{SD} (in) "Enable activation.", B3 HIZ (in) "Output high impedance mode activation.", B4 SGND (power) "Sense Ground. Connect to shield terminal of headphone jack or ground plane.", C1 CPP "Charge pump flying capacitor positive terminal. A 1 uF ceramic filtering capacitor to CPM is required.", C2 VP (power) "Positive supply voltage, connected to a Lithium/Ion battery or other power supply.", C3 OUTL (hiz) "Left audio channel output signal", C4 OUTR (hiz) "Right audio channel output signal"

## NCP2815BFCCT2G
designator U?
NOCAP(TM) LongPlay Headphone Amplifier, -40 to 85 degC, 12-Pin FLIP-CHIP, Pb-Free, Tape and Reel; Manufacturer: On Semiconductor; PartNumber: NCP2815BFCCT2G; ton Typ (ms): 1; DatasheetVersion: Rev. 1; PackageVersion: Rev. B, 08/2011; PackageReference: FLIP-CHIP-12-499BJ; PackageDescription: 12-Ball Flip Chip Ball Grid Array, Body 1.62 x 1.22 mm, Pitch 0.4 mm; Supplier 1: Digi-Key; Supplier Part Number 1: NCP2815BFCCT2G-ND; Supplier 2: Newark; Supplier Part Number 2: 07W7209; Supplier 3: Mouser; Supplier Part Number 3: 863-NCP2815BFCCT2G; Packing: Tape and Reel; RoHS: TRUE; Mounting Technology: Surface Mount; ComponentLink1Description: Manufacturer URL; ComponentLink1URL: http://www.onsemi.com/; ComponentLink2Description: Datasheet; ComponentLink2URL: http://www.onsemi.com/pub_link/Collateral/NCP2815-D.PDF; ComponentLink3Description: Package Specification; ComponentLink3URL: http://www.onsemi.com/pub_link/Collateral/499BJ.PDF
footprint ONSC-FLIP-CHIP-12-499BJ (BGA, 12-Balls, Body 1.62x1.22mm, Pitch 0.4mm)
pins: A1 CPM "Charge pump flying capacitor negative terminal. A 1 uF ceramic filtering capacitor to CPP is required", A2 PVM (out) "Charge pump output. A 1 uF ceramic filtering capacitor to ground is required", A3 INL (in) "Left input of the audio source", A4 INR (in) "Right input of the audio source", B1 PGND (power) "Power ground", B2 ~{SD} (in) "Enable activation.", B3 HIZ (in) "Output high impedance mode activation.", B4 SGND (power) "Sense Ground. Connect to shield terminal of headphone jack or ground plane.", C1 CPP "Charge pump flying capacitor positive terminal. A 1 uF ceramic filtering capacitor to CPM is required.", C2 VP (power) "Positive supply voltage, connected to a Lithium/Ion battery or other power supply.", C3 OUTL (hiz) "Left audio channel output signal", C4 OUTR (hiz) "Right audio channel output signal"

## NCP2815BFCT2G
designator U?
NOCAP(TM) LongPlay Headphone Amplifier, -40 to 85 degC, 12-Pin FLIP-CHIP, Pb-Free, Tape and Reel; Manufacturer: On Semiconductor; PartNumber: NCP2815BFCT2G; ton Typ (ms): 1; DatasheetVersion: Rev. 1; PackageVersion: Rev. B, 08/2011; PackageReference: FLIP-CHIP-12-499BJ; PackageDescription: 12-Ball Flip Chip Ball Grid Array, Body 1.62 x 1.22 mm, Pitch 0.4 mm; Packing: Tape and Reel; RoHS: TRUE; Mounting Technology: Surface Mount; ComponentLink1Description: Manufacturer URL; ComponentLink1URL: http://www.onsemi.com/; ComponentLink2Description: Datasheet; ComponentLink2URL: http://www.onsemi.com/pub_link/Collateral/NCP2815-D.PDF; ComponentLink3Description: Package Specification; ComponentLink3URL: http://www.onsemi.com/pub_link/Collateral/499BJ.PDF
footprint ONSC-FLIP-CHIP-12-499BJ (BGA, 12-Balls, Body 1.62x1.22mm, Pitch 0.4mm)
pins: A1 CPM "Charge pump flying capacitor negative terminal. A 1 uF ceramic filtering capacitor to CPP is required", A2 PVM (out) "Charge pump output. A 1 uF ceramic filtering capacitor to ground is required", A3 INL (in) "Left input of the audio source", A4 INR (in) "Right input of the audio source", B1 PGND (power) "Power ground", B2 ~{SD} (in) "Enable activation.", B3 HIZ (in) "Output high impedance mode activation.", B4 SGND (power) "Sense Ground. Connect to shield terminal of headphone jack or ground plane.", C1 CPP "Charge pump flying capacitor positive terminal. A 1 uF ceramic filtering capacitor to CPM is required.", C2 VP (power) "Positive supply voltage, connected to a Lithium/Ion battery or other power supply.", C3 OUTL (hiz) "Left audio channel output signal", C4 OUTR (hiz) "Right audio channel output signal"

## NCP2817BFCCT2G
designator U?
NOCAP(TM) LongPlay Headphone Amplifier, -40 to 85 degC, 12-Pin FLIP-CHIP, Pb-Free, Tape and Reel; Manufacturer: On Semiconductor; PartNumber: NCP2817BFCCT2G; ton Typ (ms): 1; DatasheetVersion: Rev. P0; PackageVersion: Rev. B, 08/2011; PackageReference: FLIP-CHIP-12-499BJ; PackageDescription: 12-Ball Flip Chip Ball Grid Array, Body 1.62 x 1.22 mm, Pitch 0.4 mm; Packing: Tape and Reel; RoHS: TRUE; Mounting Technology: Surface Mount; ComponentLink1Description: Manufacturer URL; ComponentLink1URL: http://www.onsemi.com/; ComponentLink2Description: Datasheet; ComponentLink2URL: http://www.onsemi.com/pub_link/Collateral/NCP2817-D.PDF; ComponentLink3Description: Package Specification; ComponentLink3URL: http://www.onsemi.com/pub_link/Collateral/499BJ.PDF
footprint ONSC-FLIP-CHIP-12-499BJ (BGA, 12-Balls, Body 1.62x1.22mm, Pitch 0.4mm)
pins: A1 CPM "Charge pump flying capacitor negative terminal. A 1 uF ceramic capacitor to CPP is required", A2 PVM (out) "Charge pump output. A 1 uF ceramic capacitor to ground is needed", A3 INL (in) "Left input of the audio source", A4 INR (in) "Right input of the audio source", B1 PGND (power) "Power ground. This pin should be connected directly to the ground plane.", B2 ~{SD} (in) "Enable activation.", B3 AGND (power) "Analog ground. This pin should be connected directly to the GND plane. Careful layout and no direct connection to other ground pins are required to ensure good noise immunity", B4 SGND (power) "Sense Ground. Connect to shield terminal of headphone jack or ground plane.", C1 CPP "Charge pump flying capacitor positive terminal. A 1 uF ceramic capacitor to CPM is required", C2 VP (power) "Positive supply voltage. Connected to single secondary cell Lithium-Ion battery or any other kind of power supply", C3 OUTL (out) "Left audio channel output signal", C4 OUTR (out) "Right audio channel output signal"

## NCP2820AFCT2G
designator U?
2.65 W Filterless Class-D Audio Power Amplifier, -40 to 85 degC, 9-Pin FLIP-CHIP, Pb-Free, Tape and Reel; Manufacturer: On Semiconductor; PartNumber: NCP2820AFCT2G; ton Typ (ms): 1; DatasheetVersion: Rev. 8; PackageVersion: Rev. O, 08/2004; PackageReference: FLIP-CHIP-9-499AL-01; PackageDescription: 9-Ball Flip Chip Ball Grid Array, Body 1.45 x 1.45 mm, Pitch 0.5 mm; Supplier 1: Mouser; Supplier Part Number 1: 863-NCP2820AFCT2G; Packing: Tape and Reel; RoHS: TRUE; Mounting Technology: Surface Mount; ComponentLink1Description: Manufacturer URL; ComponentLink1URL: http://www.onsemi.com/; ComponentLink2Description: Datasheet; ComponentLink2URL: http://www.onsemi.com/pub/Collateral/NCP2820-D.PDF; ComponentLink3Description: Package Specification; ComponentLink3URL: http://www.onsemi.com/pub_link/Collateral/499AL.PDF
footprint ONSC-FLIP-CHIP-9-499AL-01 (BGA, 9-Balls, Body 1.45x1.45mm, Pitch 0.5mm)
pins: A1 INP (in) "Positive Differential Input.", A2 GND (power) "Analog Ground.", A3 OUTM (out) "Negative BTL Output.", B1 VP (power) "Analog Positive Supply. Range: 2.5 V - 5.5 V.", B2 VP (power) "Power Analog Positive Supply. Range: 2.5 V - 5.5 V.", B3 GND (power) "Analog Ground.", C1 INM (in) "Negative Differential Input.", C2 ~{SD} (in) "The device enters in Shutdown Mode when a low level is applied on this pin. An internal 300 kohm resistor will force the device in shutdown mode if no signal is applied to this pin. It also helps to save space and cost.", C3 OUTP (out) "Positive BTL Output."

## NCP2820FCT1
designator U?
2.65 W Filterless Class-D Audio Power Amplifier, -40 to 85 degC, 9-Pin FLIP-CHIP, Tape and Reel; Manufacturer: On Semiconductor; PartNumber: NCP2820FCT1; ton Typ (ms): 9; DatasheetVersion: Rev. 8; PackageVersion: Rev. O, 08/2004; PackageReference: FLIP-CHIP-9-499AL-01; PackageDescription: 9-Ball Flip Chip Ball Grid Array, Body 1.45 x 1.45 mm, Pitch 0.5 mm; Supplier 1: Digi-Key; Supplier Part Number 1: NCP2820FCT1-ND; Packing: Tape and Reel; RoHS: FALSE; Mounting Technology: Surface Mount; ComponentLink1Description: Manufacturer URL; ComponentLink1URL: http://www.onsemi.com/; ComponentLink2Description: Datasheet; ComponentLink2URL: http://www.onsemi.com/pub/Collateral/NCP2820-D.PDF; ComponentLink3Description: Package Specification; ComponentLink3URL: http://www.onsemi.com/pub_link/Collateral/499AL.PDF
footprint ONSC-FLIP-CHIP-9-499AL-01 (BGA, 9-Balls, Body 1.45x1.45mm, Pitch 0.5mm)
pins: A1 INP (in) "Positive Differential Input.", A2 GND (power) "Analog Ground.", A3 OUTM (out) "Negative BTL Output.", B1 VP (power) "Analog Positive Supply. Range: 2.5 V - 5.5 V.", B2 VP (power) "Power Analog Positive Supply. Range: 2.5 V - 5.5 V.", B3 GND (power) "Analog Ground.", C1 INM (in) "Negative Differential Input.", C2 ~{SD} (in) "The device enters in Shutdown Mode when a low level is applied on this pin. An internal 300 kohm resistor will force the device in shutdown mode if no signal is applied to this pin. It also helps to save space and cost.", C3 OUTP (out) "Positive BTL Output."

## NCP2820FCT1G
designator U?
2.65 W Filterless Class-D Audio Power Amplifier, -40 to 85 degC, 9-Pin FLIP-CHIP, Pb-Free, Tape and Reel; Manufacturer: On Semiconductor; PartNumber: NCP2820FCT1G; ton Typ (ms): 9; DatasheetVersion: Rev. 8; PackageVersion: Rev. O, 08/2004; PackageReference: FLIP-CHIP-9-499AL-01; PackageDescription: 9-Ball Flip Chip Ball Grid Array, Body 1.45 x 1.45 mm, Pitch 0.5 mm; Supplier 1: Digi-Key; Supplier Part Number 1: NCP2820FCT1GOSTR-ND; Supplier 2: Digi-Key; Supplier Part Number 2: NCP2820FCT1GOSCT-ND; Supplier 3: Digi-Key; Supplier Part Number 3: NCP2820FCT1GOSDKR-ND; Supplier 4: Mouser; Supplier Part Number 4: 863-NCP2820FCT1G; Packing: Tape and Reel; RoHS: TRUE; Mounting Technology: Surface Mount; ComponentLink1Description: Manufacturer URL; ComponentLink1URL: http://www.onsemi.com/; ComponentLink2Description: Datasheet; ComponentLink2URL: http://www.onsemi.com/pub/Collateral/NCP2820-D.PDF; ComponentLink3Description: Package Specification; ComponentLink3URL: http://www.onsemi.com/pub_link/Collateral/499AL.PDF
footprint ONSC-FLIP-CHIP-9-499AL-01 (BGA, 9-Balls, Body 1.45x1.45mm, Pitch 0.5mm)
pins: A1 INP (in) "Positive Differential Input.", A2 GND (power) "Analog Ground.", A3 OUTM (out) "Negative BTL Output.", B1 VP (power) "Analog Positive Supply. Range: 2.5 V - 5.5 V.", B2 VP (power) "Power Analog Positive Supply. Range: 2.5 V - 5.5 V.", B3 GND (power) "Analog Ground.", C1 INM (in) "Negative Differential Input.", C2 ~{SD} (in) "The device enters in Shutdown Mode when a low level is applied on this pin. An internal 300 kohm resistor will force the device in shutdown mode if no signal is applied to this pin. It also helps to save space and cost.", C3 OUTP (out) "Positive BTL Output."